# EAGLE library part HIP9011 (library HIP9011)
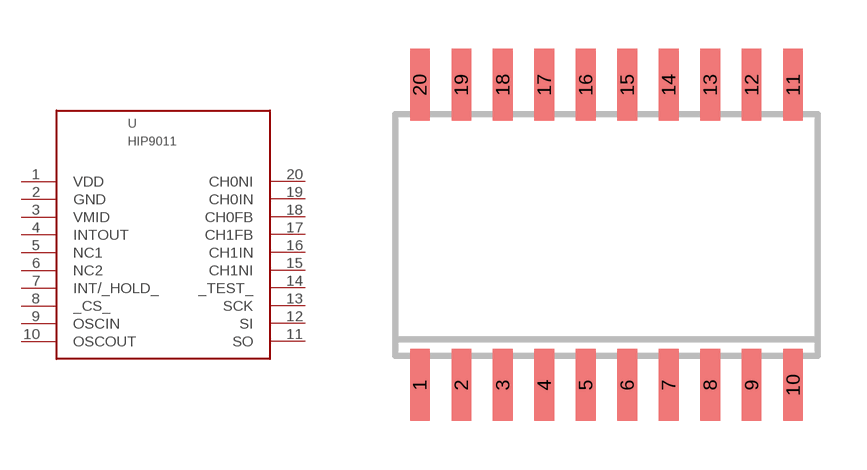
[diagram p0: symbol with the pads of SO20; footprint SO20]

Designator prefix -

## HIP9011  [SO20]
1  VDD
2  GND
3  VMID
4  INTOUT
5  NC1
6  NC2
7  INT/_HOLD_
8  _CS_
9  OSCIN
10  OSCOUT
11  SO
12  SI
13  SCK
14  _TEST_
15  CH1NI
16  CH1IN
17  CH1FB
18  CH0FB
19  CH0IN
20  CH0NI

## Footprint SO20 (pad centres in mm)
smd 0.6 x 2.2: 1 -5.715,-4.6; 2 -4.445,-4.6; 3 -3.175,-4.6; 4 -1.905,-4.6; 5 -0.635,-4.6; 6 0.635,-4.6; 7 1.905,-4.6; 8 3.175,-4.6; 9 4.445,-4.6; 10 5.715,-4.6; 11 5.715,4.6; 12 4.445,4.6; 13 3.175,4.6; 14 1.905,4.6; 15 0.635,4.6; 16 -0.635,4.6; 17 -1.905,4.6; 18 -3.175,4.6; 19 -4.445,4.6; 20 -5.715,4.6